# Altium schematic symbol library BMS_2018.SchLib: 1 symbol
Pins are listed as number, name and electrical type; pins without a type are passive.

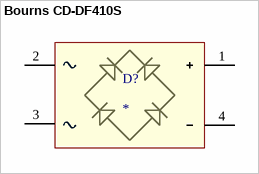
[diagram p0: symbol Bourns CD-DF410S]

## Bourns CD-DF410S
designator D?
Bourns 1000V 4A Rectifier; Supplier 1: Digi-Key; Supplier Part Number 1: CD-DF410SCT-ND
pins: 1, 2, 3, 4